# Altium schematic symbol library ifog-pcb.SCHLIB: 10 symbols
Pins are listed as number, name and electrical type; pins without a type are passive.

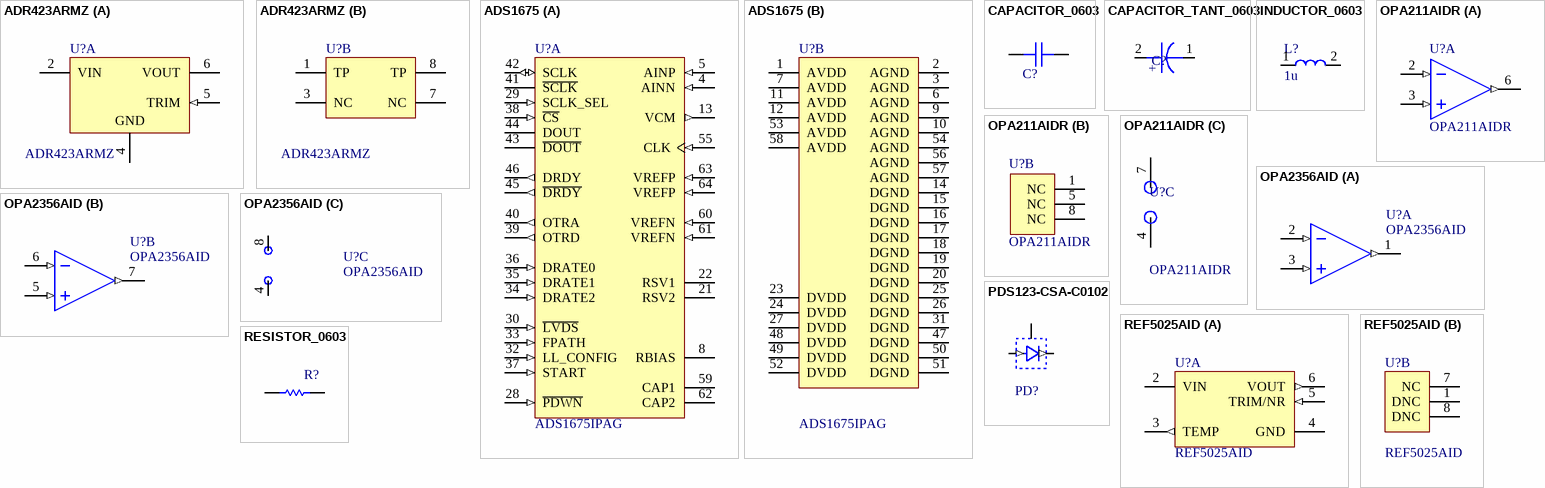
[diagram p0: symbols ADR423ARMZ to RESISTOR_0603]

## ADR423ARMZ
designator U?
Ultraprecision, Low Noise, XFET(R) Voltage Reference, 3 V Output, 5 to 18 V Supply, Industrial, 8-pin SOP (RM-8), Tube; Manufacturer: Analog Devices; Min V Supply (V): 5; Vout: 3V; Max V Supply (V): 18; Ref Out TC (ppm/C): 2; PartNumber: ADR423ARMZ; ComponentLink2Description: Datasheet; Operating Temp Range: -40 to 125 degC; Mounting Technology: Surface Mount; ComponentLink2URL: http://www.analog.com/static/imported-files/data_sheets/ADR420_421_423_425.pdf; ComponentLink1Description: Manufacturer URL; Packing: Tube; PackageReference: RM-8; PackageDescription: 8-Pin Mini Small Outline Package, Body 3 x 3 mm, Pitch 0.65 mm; ComponentLink4Description: URL Link1; ComponentLink4URL: Product URL:http://www.analog.com/en/special-linear-functions/voltage-references/adr423/products/product.html; ComponentLink1URL: http://www.analog.com/en/index.html; ComponentLink3Description: Package Specification; PackageVersion: Aug-05; ComponentLink3URL: http://www.analog.com/static/imported-files/packages/PKG_PDF/MSOP%28RM%29/RM_8.pdf; DatasheetVersion: Rev. I; Code_JEDEC: MO-187-AA; Manufacturer Part Number: ADR423ARMZ
footprint ADR423_SOP8 (SOP, 8-Leads, Body 3x3mm, Pitch 0.65mm, IPC High Density)
part A pins: 2 VIN (power), 4 GND (power), 5 TRIM (in), 6 VOUT (power)
part B pins: 1 TP, 3 NC, 7 NC, 8 TP

## ADS1675
designator U?, comment ADS1675IPAG
4 MSPS, 24-Bit ADC, -40 to 85 degC, 64-pin QFP (PAG64), Green (RoHS & no Sb/Br); Manufacturer: Texas Instruments; Analog Voltage AV/DD(Min)(V): 4.75; Analog Voltage AV/DD(Max)(V): 5.25; SFDR(dB): 120; Resolution(Bits): 24; # Input Channels: 1; SubFamily: Precision ADC (<=10MSPS); Architecture: Delta-Sigma; SNR(dB): 92; Digital Supply(Min)(V): 2.85; Sample Rate (max)(SPS): 4M; Digital Supply(Max)(V): 3.15; Interface: Parallel LVDS, Serial SPI; Eco-Plan: Green (RoHS & no Sb/Br); ComponentLink3URL: http://www.ti.com/lit/ml/mtqf006a/mtqf006a.pdf; PackageDescription: 64-Pin Plastic Flat Pack, Body 10 x 10 mm, Pitch 0.50 mm; PackageVersion: 4040282/C, 11/1996; Mounting Technology: Surface Mount; ComponentLink1URL: http://www.ti.com/; ComponentLink2URL: http://www.ti.com/general/docs/lit/getliterature.tsp?genericPartNumber=ADS1675&fileType=pdf; PartNumber: ADS1675IPAG; ComponentLink2Description: Datasheet; ComponentLink3Description: Package Specification; PackageReference: PAG64; ComponentLink1Description: Manufacturer URL; Code_JEDEC: MS-026; DatasheetVersion: SBAS416D; Manufacturer Part Number: ADS1675IPAG
footprint TI-PAG64_L (QFP, 64-Leads, Body 10x10mm, Pitch 0.5mm, IPC High Density)
part A pins: 4 AINN (in) "Negative analog input", 5 AINP (in) "Positive analog input", 8 RBIAS "Analog bias setting resistor", 13 VCM (out) "Terminal for external bypass capacitor connection to internal common-mode voltage", 21 RSV2 "Short pin to digital ground", 22 RSV1 "Short pin to digital supply", 28 ~{PDWN} (in) "Power-down control, active low", 29 SCLK_SEL (in) "Shift-clock source select. If SCLK_SEL = '0', then SCLK is internally generated. If SCLK_SEL = '1', then SCLK must be externally generated.", 30 ~{LVDS} (in) "Serial interface select. If L\V\D\S\ = '0', then interface is LVDS-compatible. If L\V\D\S\ = '1', then interface is CMOS-compatible.", 32 LL_CONFIG (in) "Configure Low-Latency digital filter. If LL_CONFIG = '0', then single-cycle settling is selected. If LL_CONFIG = '1', then fast-response is selected.", 33 FPATH (in) "Digital filter path selection. If FPATH = '0', then path is Wide Bandwidth. If FPATH = '1', then path is Low-Latency.", 34 DRATE2 (in) "Data rate selection", 35 DRATE1 (in) "Data rate selection", 36 DRATE0 (in) "Data rate selection", 37 START (in) "Start convert, reset, and synchronization control input", 38 ~{CS} (in) "Chip select; active low", 39 OTRD (out) "Digital filter out-of-range indicator", 40 OTRA (out) "Analog input out-of-range indicator", 41 ~{SCLK} (hiz) "Negative shift clock output. If SCLK_SEL = '0', then S\C\L\K\ is the complementary shift clock output. If SCLK_SEL = '1', then S\C\L\K\ always output is 3-state.", 42 SCLK (io) "Positive shift clock output. If SCLK_SEL = '0', then SCLK is an output. If SCLK_SEL = '1', then SCLK is an input.", 43 ~{DOUT} (hiz) "Negative LVDS serial data output", 44 DOUT (hiz) "Positive LVDS serial data output", 45 ~{DRDY} (out) "Negative data ready output", 46 DRDY (out) "Positive data ready output", 55 CLK (in) "Master clock input", 59 CAP1 "Terminal for 1uF external bypass capacitor", 60 VREFN (in) "Negative reference voltage. Short to analog ground", 61 VREFN (in) "Negative reference voltage. Short to analog ground", 62 CAP2 "Terminal for 1uF external bypass capacitor", 63 VREFP (in) "Positive reference voltage", 64 VREFP (in) "Positive reference voltage"
part B pins: 1 AVDD (power) "Analog supply", 2 AGND (power) "Analog ground", 3 AGND (power) "Analog ground", 6 AGND (power) "Analog ground", 7 AVDD (power) "Analog supply", 9 AGND (power) "Analog ground", 10 AGND (power) "Analog ground", 11 AVDD (power) "Analog supply", 12 AVDD (power) "Analog supply", 14 DGND (power) "Digital ground", 15 DGND (power) "Digital ground", 16 DGND (power) "Digital ground", 17 DGND (power) "Digital ground", 18 DGND (power) "Digital ground", 19 DGND (power) "Digital ground", 20 DGND (power) "Digital ground", 23 DVDD (power) "Digital supply", 24 DVDD (power) "Digital supply", 25 DGND (power) "Digital ground", 26 DGND (power) "Digital ground", 27 DVDD (power) "Digital supply", 31 DGND (power) "Digital ground", 47 DGND (power) "Digital ground", 48 DVDD (power) "Digital supply", 49 DVDD (power) "Digital supply", 50 DGND (power) "Digital ground", 51 DGND (power) "Digital ground", 52 DVDD (power) "Digital supply", 53 AVDD (power) "Analog supply", 54 AGND (power) "Analog ground", 56 AGND (power) "Analog ground", 57 AGND (power) "Analog ground", 58 AVDD (power) "Analog supply"

## CAPACITOR_0603
designator C?
Part Number: C0603C105K3RACTU; Manufacturer: Kemet; Manufacturer: KEMET; Manufacturer Part Number: C0603C105K3RACTU
footprint CAPACITOR_0603
pins: 1, 2
1 alternate drawing of the same symbol

## CAPACITOR_TANT_0603
designator C?
CAP TANT 0603; Manufacturer: AVX; Manufacturer Part Number: F981A226MMALZT; Manufacturer: Kyocera AVX; Tolerance: 20%; Material: Tantalum; Dissipation Factor: 30%; Voltage Rating: 10V; Ripple Current: 56mA; Esr: 8Ω; Life: 1000Hours; Capacitance: 22uF; Value: 22uF; Leakage Current: 11uA; Temperature: -55°C to +125°C; RoHS: TRUE; Category: Cap; Temperature Range High: +125°C; Device Class L1: Passive Components; Mouser Description: Tantalum Capacitors - Solid SMD 22uF 10V 20% 0603,1.6x0.85x0.65mm; Temperature Range Low: -55°C; Device Class L2: Capacitors; Footprint Url: http://www.avx.com/download/software/literature/AVX-Footprint-Library.pdf; Device Class L3: Tantalum Capacitors; Package: F98M; Temperature Coefficient: 30%; Height: 0.9mm; Octopart: https://octopart.com/f981a226mmalzt-avx-33960279; Automotive: No; ComponentLink2Description: Datasheet; Digikey Description: CAP TANT 22UF 20% 10V 0603; ComponentLink2URL: http://datasheets.avx.com/F98.pdf; Lead Free: Yes
footprint CAPACITOR_TANT_0603
pins: 1 C, 2 A
text: +

## INDUCTOR_0603
designator L?, comment 1u
FIXED IND SMD; Manufacturer: Murata; Manufacturer Part Number: LQM18FN1R0M00D; Inductance Tolerance: 20%; Current Rating: 150mA; Shielding: Shielded; Self Resonant Frequency: 120MHz; DC Resistance (DCR): 200mR; Inductance: 1uH; Core Material: Ferrite; Test Frequency: 1MHz; Max DC Current: 150mA; Min Operating Temperature: -55°C; Case Code (Metric): 1608; Length: 0.063inch; Height - Seated (Max): 0.035inch; Case/Package: 0603; Depth: 0.9mm; Series: LQM18F; Rated Current-Max: 150mA; REACH SVHC: No SVHC; Mount: Surface Mount; Military Standard: Not; Max Operating Temperature: 125°C; Lead Free: Lead Free; Width: 0.031inch; Tolerance: 20%; Radiation Hardening: No; Saturation Current: 150mA; DC Current: 150mA; RoHS Compliant: Yes; Height: 0.9mm; Packaging: Tape and Reel; Termination: SMD/SMT; Package Quantity: 1; Case Code (Imperial): 0603
footprint INDUCTOR_0603
pins: 1, 2

## OPA211AIDR
designator U?
1.1 nV/rtHz Noise, Low Power, Precision Operational Amplifier, 4.5 to 36 V, -40 to 125 degC, 8-pin SOIC (D8), Green (RoHS & no Sb/Br); Manufacturer: Texas Instruments; Number of Channels: 1; IIB(Max)(pA): 175000; Vio (25C)(Max)(mV): 0.125; Rating: Catalog; CMRR(Min)(dB): 114; Total Supply Voltage(Min)(+5V is 5, +/-5V is 10): 4.5; Slew Rate(Typ)(V/us): 27; Sub Family: High Supply Voltage Amplifier (>=30V), Low Noise Amp (<=10nV/rtHz), Low Offset Voltage Amplifier (<=500uV), Precision Amplifier; Total Supply Voltage(Max)(+5V is 5, +/-5V is 10): 36; Offset Drift(Typ)(uV/C): 0.15; Packing: LARGE T&R; GBW(Typ)(MHz): 45; PackageVersion: 4040047-3/M, 06/2011; ComponentLink3URL: http://www.ti.com/litv/pdf/msoi002j; ComponentLink1URL: http://www.ti.com/; PackageDescription: 8-Pin Plastic Small Outline, Body 4.9 x 3.9 mm, Pitch 1.27 mm; Code_JEDEC: MS-012; DatasheetVersion: SBOS377G; ComponentLink2URL: http://www.ti.com/lit/ds/symlink/opa211.pdf; PartNumber: OPA211AIDR; Iq per channel(Max)(mA): 4.5; Mounting Technology: Surface Mount; ComponentLink3Description: Package Specification; ComponentLink1Description: Manufacturer URL; Eco-Plan: Green (RoHS & no Sb/Br); PackageReference: D0008A; ComponentLink2Description: Datasheet; Manufacturer Part Number: OPA211AIDR
footprint OPA211_SOIC8 (SOIC, 8-Leads, Body 5x4mm, Pitch 1.27mm, IPC Medium Density)
part A pins: 2 IN- (in), 3 IN+ (in), 6 OUT (out)
part B pins: 1 NC, 5 NC, 8 NC
part C pins: 4 V- (power), 7 V+ (power)

## OPA2356AID
designator U?
200 MHz GBW, CMOS Dual Operational Amplifier, 2.5 to 5.5 V, -40 to 125 degC, 8-pin SOIC (D8), Green (RoHS & no Sb/Br); Manufacturer: Texas Instruments; Sub Family: High Output Current Amplifier (>=50mA), High Speed Amplifier (>=50MHz), Low Supply Voltage Amplifier (<=2.7V); @ MHz: 1; 3rd Harmonic(dBc): 93; BW @ Acl(MHz): 450; Vs(Max)(V): 5.5; Vn at Flatband(Typ)(nV/rtHz): 5.8; Vs(Min)(V): 2.5; Diff Phase(deg): 0.05; Io(Typ)(mA): 100; THD (Fc is 1 MHz)(Typ)(dB): -79; Rail-Rail: Out; Settling Time (0.1%)(Typ)(ns): 30; Slew Rate(Typ)(V/us): 360; 2nd Harmonic(dBc): 81; Diff Gain(%): 0.02; Iq per channel(Max)(mA): 14; Vio(Max)(mV): 9; Number of Channels: 2; Acl, min stable gain(V/V): 1; ComponentLink1URL: http://www.ti.com/; PackageReference: D0008A; ComponentLink2URL: http://www.ti.com/general/docs/lit/getliterature.tsp?genericPartNumber=OPA2356&fileType=pdf; Code_JEDEC: MS-012; Eco-Plan: Green (RoHS & no Sb/Br); PackageVersion: 4040047-3/M, 06/2011; DatasheetVersion: SBOS212A; PackageDescription: 8-Pin Plastic Small Outline, Body 4.9 x 3.9 mm, Pitch 1.27 mm; ComponentLink2Description: Datasheet; Iib(Max)(nA): 0.05; PartNumber: OPA2356AID; ComponentLink1Description: Manufacturer URL; ComponentLink3URL: http://www.ti.com/litv/pdf/msoi002j; Mounting Technology: Surface Mount; ComponentLink3Description: Package Specification; Manufacturer Part Number: OPA2356AID
footprint OPA2356_SOIC8 (SOIC, 8-Leads, Body 5x4mm, Pitch 1.27mm, IPC High Density)
part A pins: 1 OUT A (out), 2 IN A- (in), 3 IN A+ (in)
part B pins: 5 IN B+ (in), 6 IN B- (in), 7 OUT B (out)
part C pins: 4 V- (power), 8 V+ (power)

## PDS123-CSA-C0102
designator PD?  (value not drawn)
Photodiode 3 pins; Text Field1: 10; Text Field2: 20
footprint Photodetector
pins: GND, N (out), P (in)

## REF5025AID
designator U?
Low Noise, Very Low Drift, Precision Voltage Reference, -40 to 125 degC, 8-pin SOIC (D), Green (RoHS & no Sb/Br); Manufacturer: Texas Instruments; Iq(Max)(uA): 1000; Initial Accuracy @ 25/deg C(%): 0.05; Rating: Military; VO(V): 2.5; VI(Max)(V): 18; SubFamily: Series Voltage Reference; Iout/Iz(Max)(mA): 10; VI(Min)(V): 2.7; Temp Coeff(Max)(ppm/ degree C): 3; PartNumber: REF5025AID; DatasheetVersion: SBOS410E; PackageVersion: 4040047-3/M; Mounting Technology: Surface Mount; PackageDescription: 8-Pin Plastic Small Outline, Body 4.9 x 3.9 mm, Pitch 1.27 mm; ComponentLink1URL: http://www.ti.com/; Code_JEDEC: MS-012; ComponentLink4Description: URL Link1; ComponentLink1Description: Manufacturer URL; ComponentLink3Description: Package Specification; Eco-Plan: Green (RoHS & no Sb/Br); ComponentLink4URL: Samples URL:http://www.ti.com/product/ref5025; PackageReference: D0008A; ComponentLink3URL: http://www.ti.com/litv/pdf/msoi002j; ComponentLink2Description: Datasheet; ComponentLink2URL: http://www.ti.com/general/docs/lit/getliterature.tsp?genericPartNumber=REF5025&fileType=pdf; Manufacturer Part Number: REF5025AID
footprint OPA2356_SOIC8 (SOIC, 8-Leads, Body 5x4mm, Pitch 1.27mm, IPC High Density)
part A pins: 2 VIN (power), 3 TEMP (out), 4 GND (power), 5 TRIM/NR (in), 6 VOUT (out)
part B pins: 1 DNC "No internal connect", 7 NC "No internal connection", 8 DNC "No internal connect"

## RESISTOR_0603
designator R?
Chip Resistor 0603 (1608 Metric), RoHS, Tape and Reel; Manufacturer: Vishay; Manufacturer Part Number: CRCW060310K0FKEA; Voltage Rating: 75 V; Height: 0.45 mm; Length: 1.55 mm; Package Quantity: 5000; Packaging: Tape and Reel; Max Operating Temperature: 155 degC; Min Operating Temperature: -55 degC; PackageDescription: 2-Pin Surface Mount Device, Body 1.575 x 0.85 mm; ComponentLink1Description: Manufacturer URL; RoHSCompliant: true; PackageReference: 0603; REACH SVHC: Unknown; DatasheetVersion: 06/2012; Mounting Technology: Surface Mount; ComponentLink2URL: https://datasheet.ciiva.com/11809/0900766b80d98afc-11809037.pdf; ComponentLink2Description: Datasheet; ComponentLink1URL: http://www.vishay.com/
footprint RESISTOR_0603
pins: 1, 2